# EAGLE library part TB6612FNG (library microbuilder)
TB6612FNG Dual H-Bridge Motor Driver
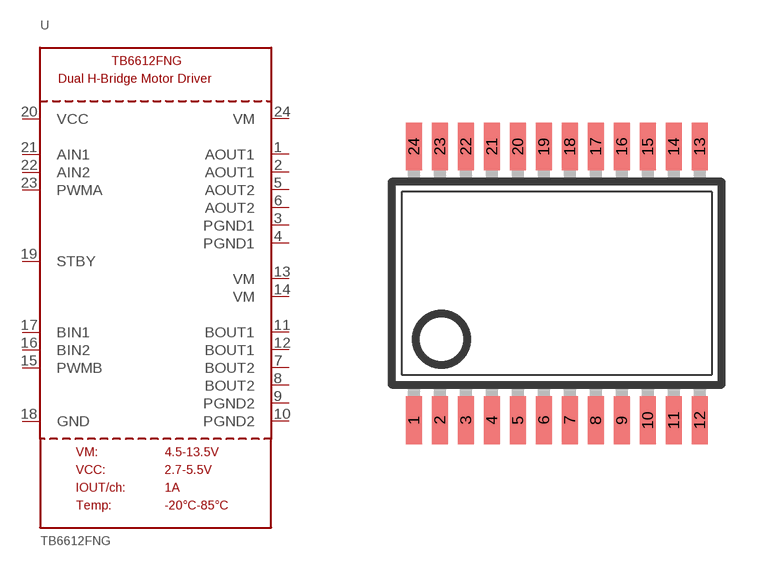
[diagram p197: symbol with the pads of SSOP24; footprint SSOP24]

Designator prefix U

## TB6612FNGSSOP  [SSOP24]
1  AOUT1  out
2  AOUT1  out
3  PGND1  pwr
4  PGND1  pwr
5  AOUT2  out
6  AOUT2  out
7  BOUT2  out
8  BOUT2  out
9  PGND2  pwr
10  PGND2  pwr
11  BOUT1  out
12  BOUT1  out
13  VM  pwr
14  VM  pwr
15  PWMB  in
16  BIN2  in
17  BIN1  in
18  GND  pwr
19  STBY  in
20  VCC  pwr
21  AIN1  in
22  AIN2  in
23  PWMA  in
24  VM  pwr

## Footprint SSOP24 (pad centres in mm)
Small Shrink Outline Package SOT340-1 / JEDEC MO-150AG
smd 0.4 x 1.2: 1 -3.575,-3.42; 2 -2.925,-3.42; 3 -2.275,-3.42; 4 -1.625,-3.42; 5 -0.975,-3.42; 6 -0.325,-3.42; 7 0.325,-3.42; 8 0.975,-3.42; 9 1.625,-3.42; 10 2.275,-3.42; 11 2.925,-3.42; 12 3.575,-3.42; 13 3.575,3.42; 14 2.925,3.42; 15 2.275,3.42; 16 1.625,3.42; 17 0.975,3.42; 18 0.325,3.42; 19 -0.325,3.42; 20 -0.975,3.42; 21 -1.625,3.42; 22 -2.275,3.42; 23 -2.925,3.42; 24 -3.575,3.42